# EAGLE library part PX4FLOW (library cansat-lib)
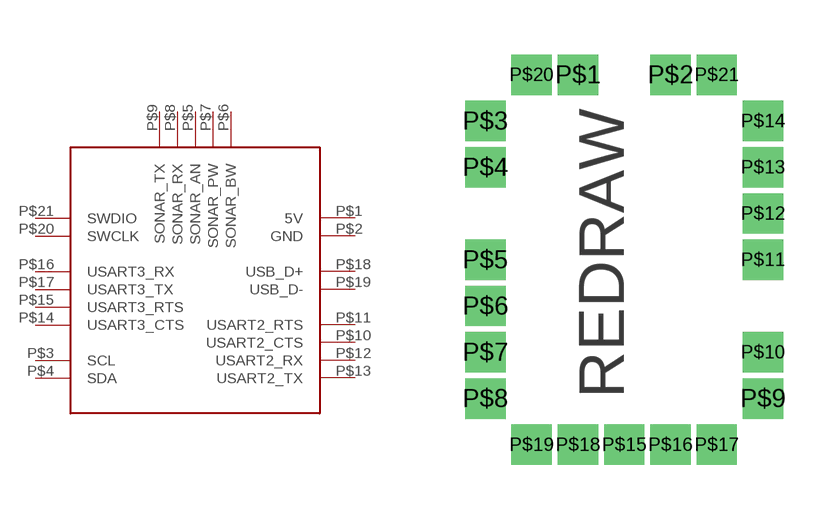
[diagram p9: symbol with the pads of PX4FLOW_TMP; footprint PX4FLOW_TMP]

Designator prefix -

## PX4FLOW  [PX4FLOW_TMP]
P$1  5V
P$2  GND
P$3  SCL
P$4  SDA
P$5  SONAR_AN
P$6  SONAR_BW
P$7  SONAR_PW
P$8  SONAR_RX
P$9  SONAR_TX
P$10  USART2_CTS
P$11  USART2_RTS
P$12  USART2_RX
P$13  USART2_TX
P$14  USART3_CTS
P$15  USART3_RTS
P$16  USART3_RX
P$17  USART3_TX
P$18  USB_D+
P$19  USB_D-
P$20  SWCLK
P$21  SWDIO

## Footprint PX4FLOW_TMP (pad centres in mm)
drill 0.6 square: P$1 -1.27,5.08; P$2 1.27,5.08; P$3 -3.81,3.81; P$4 -3.81,2.54; P$5 -3.81,0; P$6 -3.81,-1.27; P$7 -3.81,-2.54; P$8 -3.81,-3.81; P$9 3.81,-3.81; P$10 3.81,-2.54; P$11 3.81,0; P$12 3.81,1.27; P$13 3.81,2.54; P$14 3.81,3.81; P$15 0,-5.08; P$16 1.27,-5.08; P$17 2.54,-5.08; P$18 -1.27,-5.08; P$19 -2.54,-5.08; P$20 -2.54,5.08; P$21 2.54,5.08